# Altium footprint library aruna_pcb_card.PcbLib: 41 footprints (part 2 of 3)
Each footprint in its own frame and in the unit in brackets; x right, y up, seen from the top. Pads: shape width x height; smd on the part's side, far side on the other; paste and mask are expansions set on the pad; w line width, h text height; cw(c..) or ccw(c..) is an arc to the next point about the centre after c.
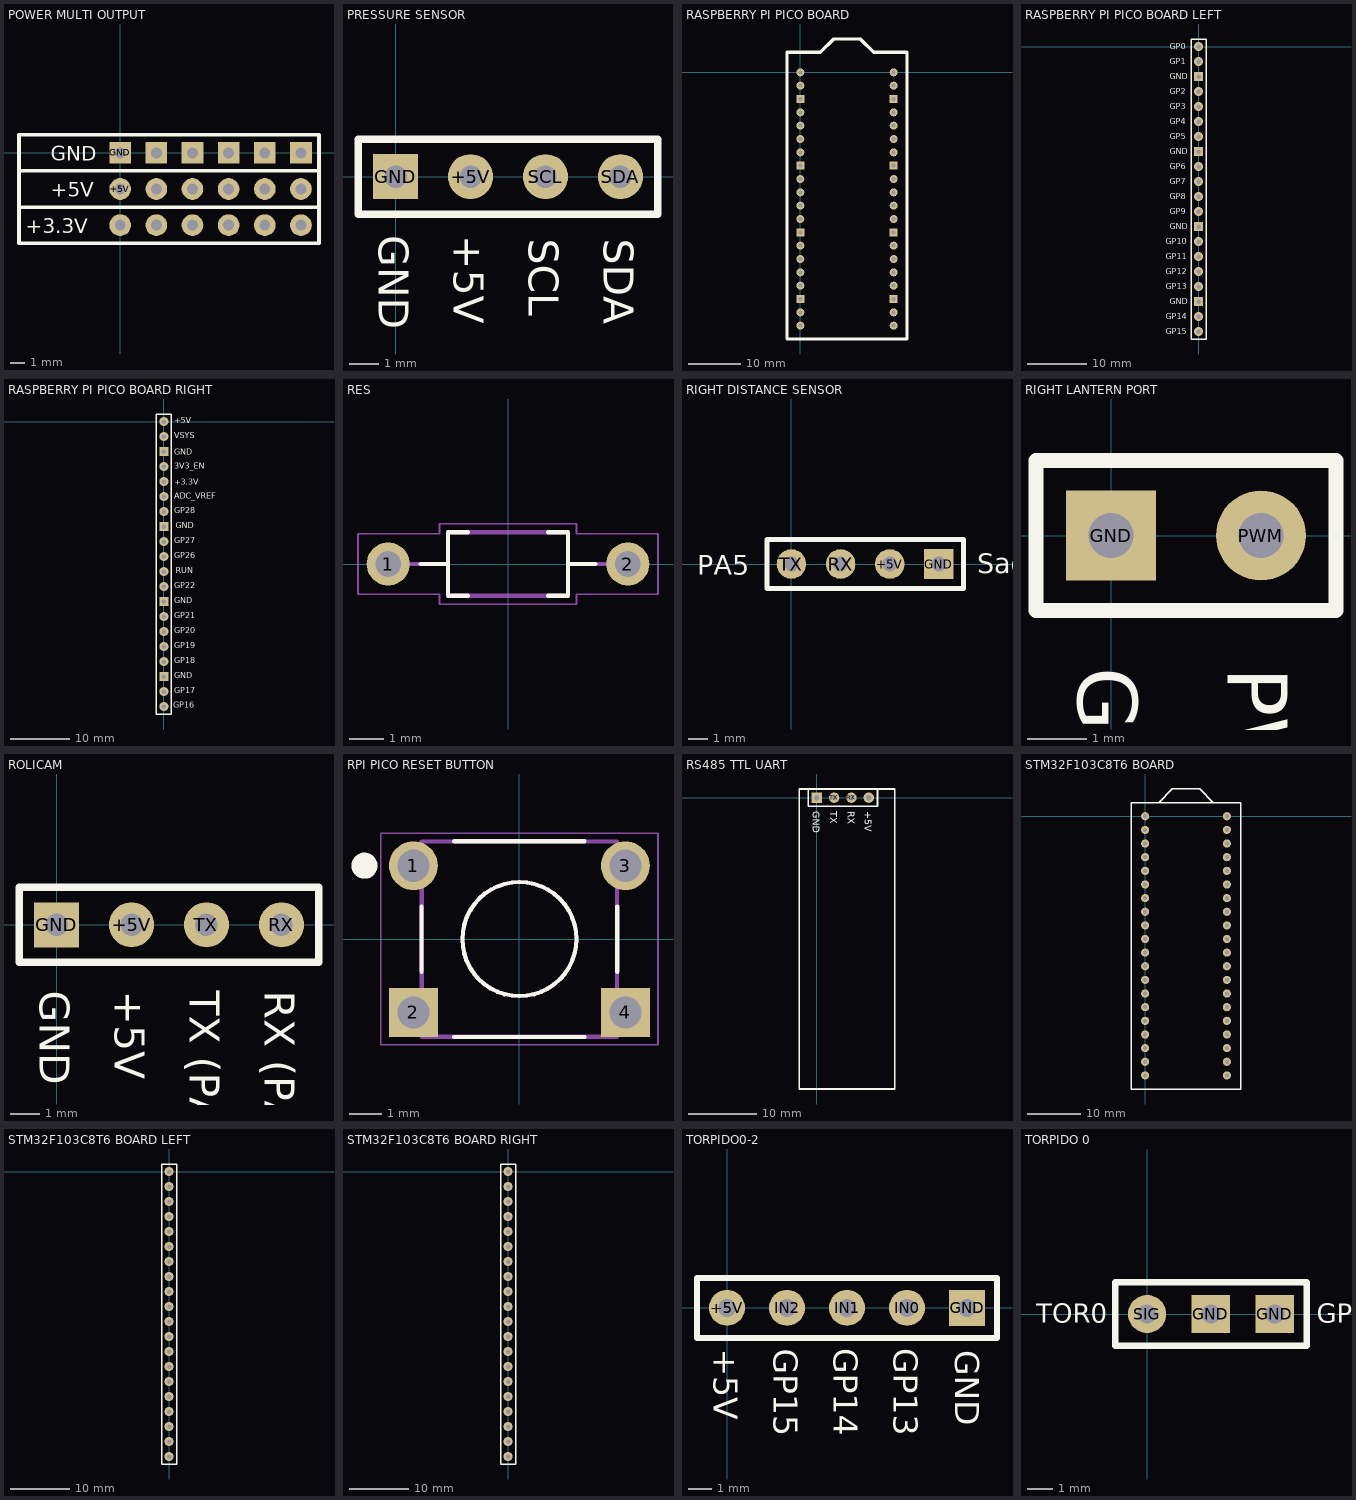
[diagram p1: the footprints below, top view; thin cyan lines are the x and y axes]

## POWER MULTI OUTPUT [mil]
pads (18):
  round 60 hole 30: +3.3V(0,-200) +3.3V_2(100,-200) +3.3V_3(200,-200) +3.3V_4(300,-200) +3.3V_5(400,-200) +3.3V_6(500,-200) +5V(0,-100) +5V_2(100,-100) +5V_3(200,-100) +5V_4(300,-100) +5V_5(400,-100) +5V_6(500,-100)
  rect 60x60 hole 30: GND(0,0) GND_2(100,0) GND_3(200,0) GND_4(300,0) GND_5(400,0) GND_6(500,0)
Top Overlay:
  lines w10: -280,-250 550,-250 ; -280,-250 -280,50 ; -280,-250 -280,-150 ; -280,-250 550,-250 ; -280,-150 550,-150 ; -280,-150 -280,-50 ; -280,-150 550,-150 ; -280,-50 550,-50 ; -280,-50 -280,50 ; -280,-50 550,-50 ; -280,50 550,50 ; -280,50 550,50 ; 550,-250 550,50 ; 550,-250 550,-150 ; 550,-150 550,-50 ; 550,-50 550,50
  text "+3.3V" at -262,-222 h40
  text "+5V" at -192,-122 h40
  text "GND" at -192,-22 h40
3D body "18 pin 3 Row 2.54mm Male Pin Header.stp": height 330, standoff -100, extent -50,-248 550,50

## PRESSURE SENSOR [mil]
pads (4):
  round 60 hole 30: +5V(100,0) SCL(200,0) SDA(300,0)
  rect 60x60 hole 30: GND(0,0)
Top Overlay:
  lines w10: -50,-50 350,-50 350,50 -50,50 -50,-50
  text "SCL" at 178,-83 h40
  text "SDA" at 278,-83 h40
  text "+5V" at 78,-78 h40
  text "GND" at -22,-77.99 h40
3D body "4 pin 1 Row 2.54mm Male Pin Header.stp": height 330, standoff -115, extent -50,-48 350,50

## RASPBERRY PI PICO BOARD [mil]
pads (40):
  round 60 hole 30: 3V3_EN(700,-300) +3.3V(700,-400) +5V(700,0) ADC_VREF(700,-500) GP0(0,0) GP1(0,-100) GP2(0,-300) GP3(0,-400) GP4(0,-500) GP5(0,-600) GP6(0,-800) GP7(0,-900) GP8(0,-1000) GP9(0,-1100) GP10(0,-1300) GP11(0,-1400) GP12(0,-1500) GP13(0,-1600) GP14(0,-1800) GP15(0,-1900) GP16(700,-1900) GP17(700,-1800) GP18(700,-1600) GP19(700,-1500) GP20(700,-1400) GP21(700,-1300) GP22(700,-1100) GP26(700,-900) GP27(700,-800) GP28(700,-600) RUN(700,-1000) VSYS(700,-100)
  rect 60x60 hole 30: GND(0,-1700) GND(0,-1200) GND(0,-700) GND(0,-200) GND(700,-1700) GND(700,-1200) GND(700,-700) GND(700,-200)
Top Overlay:
  lines w25: -100,-2000 -100,150 100,150 150,150 250,250 450,250 550,150 600,150 800,150 800,-2000 -100,-2000
3D body "3 pin 1 Row 2.54mm Male Pin Header.stp": height 625, standoff 195, extent 200,-1940 500,-1840
3D body "20 pin 1 Row 2.54mm Male Pin Header.stp": height 365, standoff -80, extent -48,-1950 50,50
3D body "20 pin 1 Row 2.54mm Male Pin Header.stp": height 365, standoff -80, extent 652,-1950 750,50
3D body "20 pin 1 Row 2.54mm Female Pin Header.STEP": height 250, standoff -140, extent -70,-1950 70,50
3D body "20 pin 1 Row 2.54mm Female Pin Header.STEP": height 250, standoff -140, extent 630,-1950 770,50
3D body "SC0915--3DModel-STEP-56544.STEP": height 396.85, standoff 250, extent -63.39,-1950 763.39,109.06

## RASPBERRY PI PICO BOARD LEFT [mil]
pads (20):
  rect 60x60 hole 30: GND(0,-1700) GND(0,-1200) GND(0,-700) GND(0,-200)
  round 60 hole 30: GP0(0,0) GP1(0,-100) GP2(0,-300) GP3(0,-400) GP4(0,-500) GP5(0,-600) GP6(0,-800) GP7(0,-900) GP8(0,-1000) GP9(0,-1100) GP10(0,-1300) GP11(0,-1400) GP12(0,-1500) GP13(0,-1600) GP14(0,-1800) GP15(0,-1900)
Top Overlay:
  lines w10: -50,-1950 50,-1950 50,50 -50,50 -50,-1950
  text "GP14" at -217,-1817 h40
  text "GND" at -192,-1717 h40
  text "GP13" at -217,-1617 h40
  text "GP12" at -217,-1517 h40
  text "GP11" at -217,-1417 h40
  text "GP10" at -217,-1317 h40
  text "GND" at -192,-1217 h40
  text "GP9" at -192,-1117 h40
  text "GP8" at -192,-1017 h40
  text "GP7" at -192,-917 h40
  text "GP6" at -192,-817 h40
  text "GND" at -192,-717 h40
  text "GP5" at -192,-617 h40
  text "GP4" at -192,-517 h40
  text "GP3" at -192,-417 h40
  text "GP2" at -192,-317 h40
  text "GND" at -192,-217 h40
  text "GP0" at -192,-17 h40
  text "GP1" at -192,-117 h40
  text "GP15" at -217,-1917 h40
3D body "20 pin 1 Row 2.54mm Male Pin Header.stp": height 330, standoff -115, extent -49,-1950 49,50

## RASPBERRY PI PICO BOARD RIGHT [mil]
pads (20):
  round 60 hole 30: 3V3_EN(0,-300) +3.3V(0,-400) +5V(0,0) ADC_VREF(0,-500) GP16(0,-1900) GP17(0,-1800) GP18(0,-1600) GP19(0,-1500) GP20(0,-1400) GP21(0,-1300) GP22(0,-1100) GP26(0,-900) GP27(0,-800) GP28(0,-600) RUN(0,-1000) VSYS(0,-100)
  rect 60x60 hole 30: GND(0,-1700) GND(0,-1200) GND(0,-700) GND(0,-200)
Top Overlay:
  lines w10: -50,-1950 -50,50 50,50 50,-1950 -50,-1950
  text "+5V" at 68,-12 h40
  text "VSYS" at 68,-112 h40
  text "GND" at 68,-222 h40
  text "3V3_EN" at 68,-315.34 h40
  text "+3.3V" at 68,-422 h40
  text "ADC_VREF" at 68,-515.34 h40
  text "GP28" at 68,-612 h40
  text "GND" at 78,-712 h40
  text "GP27" at 68,-812 h40
  text "GP26" at 68,-912 h40
  text "RUN" at 78,-1012 h40
  text "GP22" at 68,-1112 h40
  text "GND" at 68,-1212 h40
  text "GP21" at 68,-1312 h40
  text "GP20" at 68,-1412 h40
  text "GP19" at 68,-1512 h40
  text "GP18" at 68,-1612 h40
  text "GP16" at 63,-1907 h40
  text "GP17" at 68,-1812 h40
  text "GND" at 68,-1712 h40
3D body "20 pin 1 Row 2.54mm Male Pin Header.stp": height 330, standoff -115, extent -49,-1950 49,50

## RES [mm]
pads (2):
  round 1.258 hole 0.75: 1(-3.5,0) 2(3.5,0)
Top Overlay:
  lines w0.127: -2.55,0 -1.75,0 ; -1.17,-0.925 -1.75,-0.925 -1.75,0 ; -1.17,0.925 -1.75,0.925 -1.75,0 ; 1.17,-0.925 1.75,-0.925 1.75,0 ; 1.17,0.925 1.75,0.925 1.75,0 ; 2.55,0 1.75,0
Mechanical 13:
  lines w0.127: -2.925,0 -1.75,0 ; 2.925,0 1.75,0 ; -1.75,0 -1.75,0.925 1.75,0.925 1.75,0 ; -1.75,0 -1.75,-0.925 1.75,-0.925 1.75,0
Mechanical 15:
  lines w0.05: -4.38,-0.88 -4.38,0.88 -2,0.88 -2,1.175 2,1.175 2,0.88 4.38,0.88 4.38,-0.88 2,-0.88 2,-1.175 -2,-1.175 -2,-0.88 -4.38,-0.88
3D body "step_temp.STEP": height 1.85, standoff -23.57, extent -3.725,-0.925 3.725,0.925

## RIGHT DISTANCE SENSOR [mil]
pads (4):
  round 60 hole 30: +5V(200,0) RX(100,0) TX(0,0)
  rect 60x60 hole 30: GND(300,0)
Top Overlay:
  lines w10: -50,-50 350,-50 350,50 -50,50 -50,-50
  text "Sag" at 378,-18.67 h40
  text "PA5" at -192,-22 h40
3D body "4 pin 1 Row 2.54mm Male Pin Header.stp": height 330, standoff -115, extent -50,-49 350,49

## RIGHT LANTERN PORT [mil]
pads (2):
  rect 60x60 hole 30: GND(0,0)
  round 60 hole 30: PWM(100,0)
Top Overlay:
  lines w10: -50,-50 -50,50 150,50 150,-50 -50,-50
  text "GND" at -22,-87.99 h40
  text "PWM (PB0)" at 78,-88 h40
3D body "2 pin 1 Row 2.54mm Male Pin Header.stp": height 355, standoff -90, extent -50,-50 150,50

## ROLICAM [mil]
pads (4):
  round 60 hole 30: +5V(100,0) RX(300,0) TX(200,0)
  rect 60x60 hole 30: GND(0,0)
Top Overlay:
  lines w10: -50,-50 350,-50 350,50 -50,50 -50,-50
  text "+5V" at 78,-88 h40
  text "RX (PA3)" at 278,-88 h40
  text "GND" at -22,-87.99 h40
  text "TX (PA2)" at 178,-88 h40
3D body "4 pin 1 Row 2.54mm Male Pin Header.stp": height 330, standoff -115, extent -50,-49 350,49

## RPI PICO RESET BUTTON [mm]
pads (4):
  round 1.498 hole 0.99: 1(-3.25,2.25) 3(3.25,2.25)
  rect 1.498x1.498 hole 0.99: 2(-3.25,-2.25) 4(3.25,-2.25)
Top Overlay:
  circle w0.127: c0,0 r1.75
  circle w0.4: c-4.75,2.25 r0.2
  lines w0.127: -3,-1 -3,1 ; -2,-3 2,-3 ; -2,3 2,3 ; 3,-1 3,1
Mechanical 13:
  circle w0.127: c0,0 r1.75
  circle w0.4: c-3.25,2.25 r0.2
  lines w0.127: -2.995,-2.995 -2.995,2.995 2.995,2.995 2.995,-2.995 -2.995,-2.995
Mechanical 15:
  lines w0.05: -4.25,-3.245 4.25,-3.245 4.25,3.25 -4.25,3.25 -4.25,-3.245
3D body "step_temp.STEP": height 9.5, standoff -3.51, extent -3.95,-2.997 3.95,2.997

## RS485 TTL UART [mil]
pads (4):
  round 60 hole 30: +5V(300,0) RX(200,0) TX(100,0)
  rect 60x60 hole 30: GND(0,0)
Top Overlay:
  lines w10: -101.18,-1682.28 450,-1682.28 450,50 -101.18,50 -101.18,-1682.28 ; -50,-50 350,-50 350,50 -50,50 -50,-50
  text "+5V" at 278,-78 h40
  text "RX" at 178,-78 h40
  text "TX" at 78,-78 h40
  text "GND" at -22,-78 h40
3D body "4 pin 1 Row 2.54mm Female Pin Header.stp": height 334.65, standoff -118.11, extent -59.84,-50 359.84,50

## STM32F103C8T6 BOARD [mil]
pads (40):
  round 60 hole 30: +3.3V(0,-1900) +3.3V_2(600,-200) +5V(0,-1700) GND(0,-1800) GND_2(600,0) GND_3(600,-100) PA0(600,-1500) PA1(600,-1400) PA2(600,-1300) PA3(600,-1200) PA4(600,-1100) PA5(600,-1000) PA6(600,-900) PA7(600,-800) PA8(0,-400) PA9(0,-500) PA10(0,-600) PA11(0,-700) PA12(0,-800) PA15(0,-900) PB0(600,-700) PB1(600,-600) PB3(0,-1000) PB4(0,-1100) PB5(0,-1200) PB6(0,-1300) PB7(0,-1400) PB8(0,-1500) PB9(0,-1600) PB10(600,-500) PB11(600,-400) PB12(0,0) PB13(0,-100) PB14(0,-200) PB15(0,-300) PC13(600,-1800) PC14(600,-1700) PC15(600,-1600) RESET(600,-300) Vbat(600,-1900)
Top Overlay:
  lines w10: 100,100 200,200 400,200 500,100 ; -100,-2000 700,-2000 700,100 -100,100 -100,-2000
3D body "20 pin 1 Row 2.54mm Female Pin Header.STEP": height 250, standoff -140, extent 530,-1950 670,50
3D body "20 pin 1 Row 2.54mm Female Pin Header.STEP": height 250, standoff -140, extent -70,-1950 70,50
3D body "stm32f103c8t6-board.SLDPRT": height 703.27, standoff 33.98, extent -152.76,-2200 752.76,75.59

## STM32F103C8T6 BOARD LEFT [mil]
pads (20):
  round 60 hole 30: +3.3V(0,-1900) +5V(0,-1700) GND(0,-1800) PA8(0,-400) PA9(0,-500) PA10(0,-600) PA11(0,-700) PA12(0,-800) PA15(0,-900) PB3(0,-1000) PB4(0,-1100) PB5(0,-1200) PB6(0,-1300) PB7(0,-1400) PB8(0,-1500) PB9(0,-1600) PB12(0,0) PB13(0,-100) PB14(0,-200) PB15(0,-300)
Top Overlay:
  lines w10: -50,-1950 50,-1950 50,50 -50,50 -50,-1950
3D body "20 pin 1 Row 2.54mm Male Pin Header.stp": height 330, standoff -115, extent -49,-1950 49,50

## STM32F103C8T6 BOARD RIGHT [mil]
pads (20):
  round 60 hole 30: +3.3V_2(0,-200) GND_2(0,0) GND_3(0,-100) PA0(0,-1500) PA1(0,-1400) PA2(0,-1300) PA3(0,-1200) PA4(0,-1100) PA5(0,-1000) PA6(0,-900) PA7(0,-800) PB0(0,-700) PB1(0,-600) PB10(0,-500) PB11(0,-400) PC13(0,-1800) PC14(0,-1700) PC15(0,-1600) RESET(0,-300) Vbat(0,-1900)
Top Overlay:
  lines w10: -50,-1950 50,-1950 50,50 -50,50 -50,-1950
3D body "20 pin 1 Row 2.54mm Male Pin Header.stp": height 330, standoff -115, extent -49,-1950 49,50

## TORPIDO0-2 [mil]
pads (5):
  round 60 hole 30: +5V(0,0) IN0(300,0) IN1(200,0) IN2(100,0)
  rect 60x60 hole 30: GND(400,0)
Top Overlay:
  lines w10: -50,-50 450,-50 450,50 -50,50 -50,-50
  text "GND" at 380.7,-70.55 h40
  text "GP13" at 277.53,-67.45 h40
  text "GP14" at 177.53,-67.45 h40
  text "+5V" at -22,-68 h40
  text "GP15" at 78,-68 h40
3D body "TSW-105-23-F-S.stp": height 330, standoff -115, extent -55,-50 450,50

## TORPIDO 0 [mil]
pads (3):
  rect 60x60 hole 30: GND(100,0) GND(200,0)
  round 60 hole 30: SIG(0,0)
Top Overlay:
  lines w10: -50,-50 250,-50 250,50 -50,50 -50,-50
  text "TOR0" at -174,-14 h30
  text "GP13" at 266,-14 h30
3D body "3 pin 1 Row 2.54mm Male Pin Header.stp": height 350, standoff -80, extent -50,-50 250,50